# Altium schematic symbol library HRG3216P-1001-B-T1.SchLib: 1 symbol
Pins are listed as number, name and electrical type; pins without a type are passive.

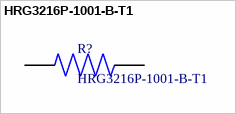
[diagram p0: symbol HRG3216P-1001-B-T1]

## HRG3216P-1001-B-T1
designator R?
RES SMD 1K OHM 0.1% 1W 1206; MF: {'manufacturer': u'Susumu'}; Value: *; Package: None; MP: HRG3216P-1001-B-T1; Price: None; Availability: Unavailable
footprint RESC3216X55N
pins: 1, 1, 2, 2